# EAGLE library part INA2181A1IDSQR (library edrtech_lib)
Current Sense Amplifiers 26V, dual channel, bi-directional, 350kHz current sense amplifier 10-WSON -40 to 125 Source: Datasheet <https://www.ti.com/lit/ds/symlink/ina2181.pdf?ts=1623483493220&ref_url=https%3A%2F%2Fwww.ti.com%2Fsitesearch%2Fdocs%2Funiversalsearch.tsp%3FlangPref%3Den-US%26searchTerm%3DINA2181A1IDSQR%26nr%3D17>
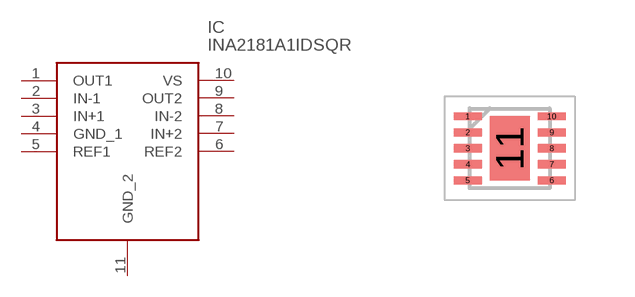
[diagram p41: symbol with the pads of SON40P200X200X80-11N; footprint SON40P200X200X80-11N]

Designator prefix IC

## INA2181A1IDSQR (ARROW_PART_NUMBER: INA2181A1IDSQR; ARROW_PRICE-STOCK: https://www.arrow.com/en/products/ina2181a1idsqr/texas-instruments?region=nac; DESCRIPTION: Current Sense Amplifiers 26V, dual channel, bi-directional, 350kHz current sense amplifier 10-WSON -40 to 125; HEIGHT: 0.8mm; MANUFACTURER_NAME: Texas Instruments; MANUFACTURER_PART_NUMBER: INA2181A1IDSQR; MOUSER_PART_NUMBER: 595-INA2181A1IDSQR; MOUSER_PRICE-STOCK: https://www.mouser.co.uk/ProductDetail/Texas-Instruments/INA2181A1IDSQR?qs=7MVldsJ5UayfbBS7jtxHcA%3D%3D)  [SON40P200X200X80-11N]
1  OUT1
2  IN-1
3  IN+1
4  GND_1
5  REF1
6  REF2
7  IN+2
8  IN-2
9  OUT2
10  VS
11  GND_2

## Footprint SON40P200X200X80-11N (pad centres in mm)
DSQ0010A
smd 0.7 x 0.2: 1 -1.05,0.8; 2 -1.05,0.4; 3 -1.05,0; 4 -1.05,-0.4; 5 -1.05,-0.8; 6 1.05,-0.8; 7 1.05,-0.4; 8 1.05,0; 9 1.05,0.4; 10 1.05,0.8
smd 1 x 1.6: 11 0,0